# Altium footprint library TPS7A8300.PcbLib: 1 footprints
Each footprint in its own frame and in the unit in brackets; x right, y up, seen from the top. Pads: shape width x height; smd on the part's side, far side on the other; paste and mask are expansions set on the pad; w line width, h text height; cw(c..) or ccw(c..) is an arc to the next point about the centre after c.
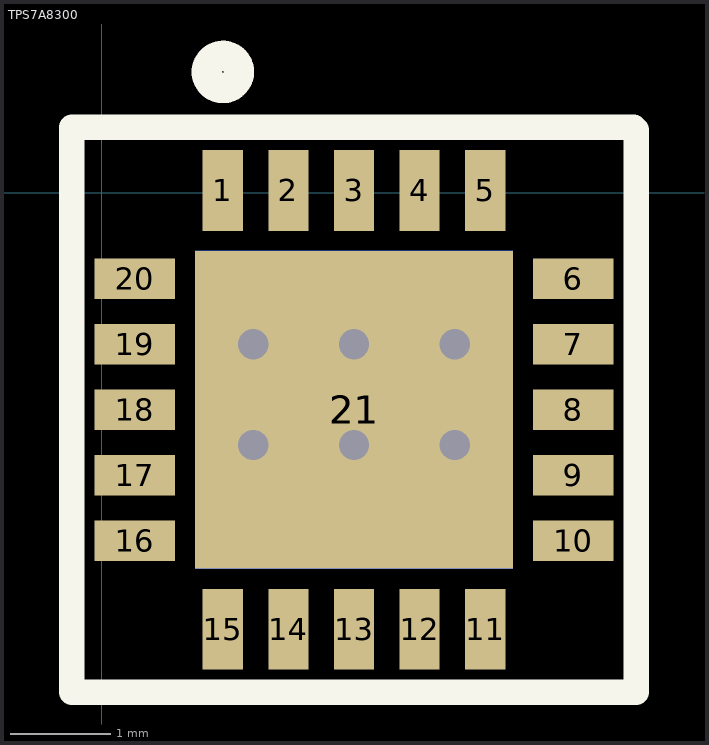
[diagram p0: the footprint, top view; thin cyan lines are the x and y axes]

## TPS7A8300 [mm]
pads (22):
  rect 0.4x0.8 smd: 1(1.2,0.025) 2(1.85,0.025) 3(2.5,0.025) 4(3.15,0.025) 5(3.8,0.025) 11(3.8,-4.325) 12(3.15,-4.325) 13(2.5,-4.325) 14(1.85,-4.325) 15(1.2,-4.325)
  rect 0.8x0.4 smd: 6(4.675,-0.85) 7(4.675,-1.5) 8(4.675,-2.15) 9(4.675,-2.8) 10(4.675,-3.45) 16(0.325,-3.45) 17(0.325,-2.8) 18(0.325,-2.15) 19(0.325,-1.5) 20(0.325,-0.85)
  rect 3.15x3.15 smd: 21(2.5,-2.15)
  rect 3.15x3.15 smd far side: 21(2.5,-2.15)
via 1.5,-2.5 diameter 0.6 hole 0.3
via 2.5,-2.5 diameter 0.6 hole 0.3
via 3.5,-2.5 diameter 0.6 hole 0.3
via 3.5,-1.5 diameter 0.6 hole 0.3
via 2.5,-1.5 diameter 0.6 hole 0.3
via 1.5,-1.5 diameter 0.6 hole 0.3
Top Overlay:
  circle w0.3: c1.2,1.2 r0.16
  lines w0.254: -0.3,-4.95 -0.3,0.65 5.275,0.65 5.3,0.625 5.3,-0.725 5.3,-4.95 3.85,-4.95 -0.3,-4.95